# Altium integrated library Analog Devices Data Converters Digital-to-Analog Converters.IntLib: 2231 symbols (part 4 of 181)
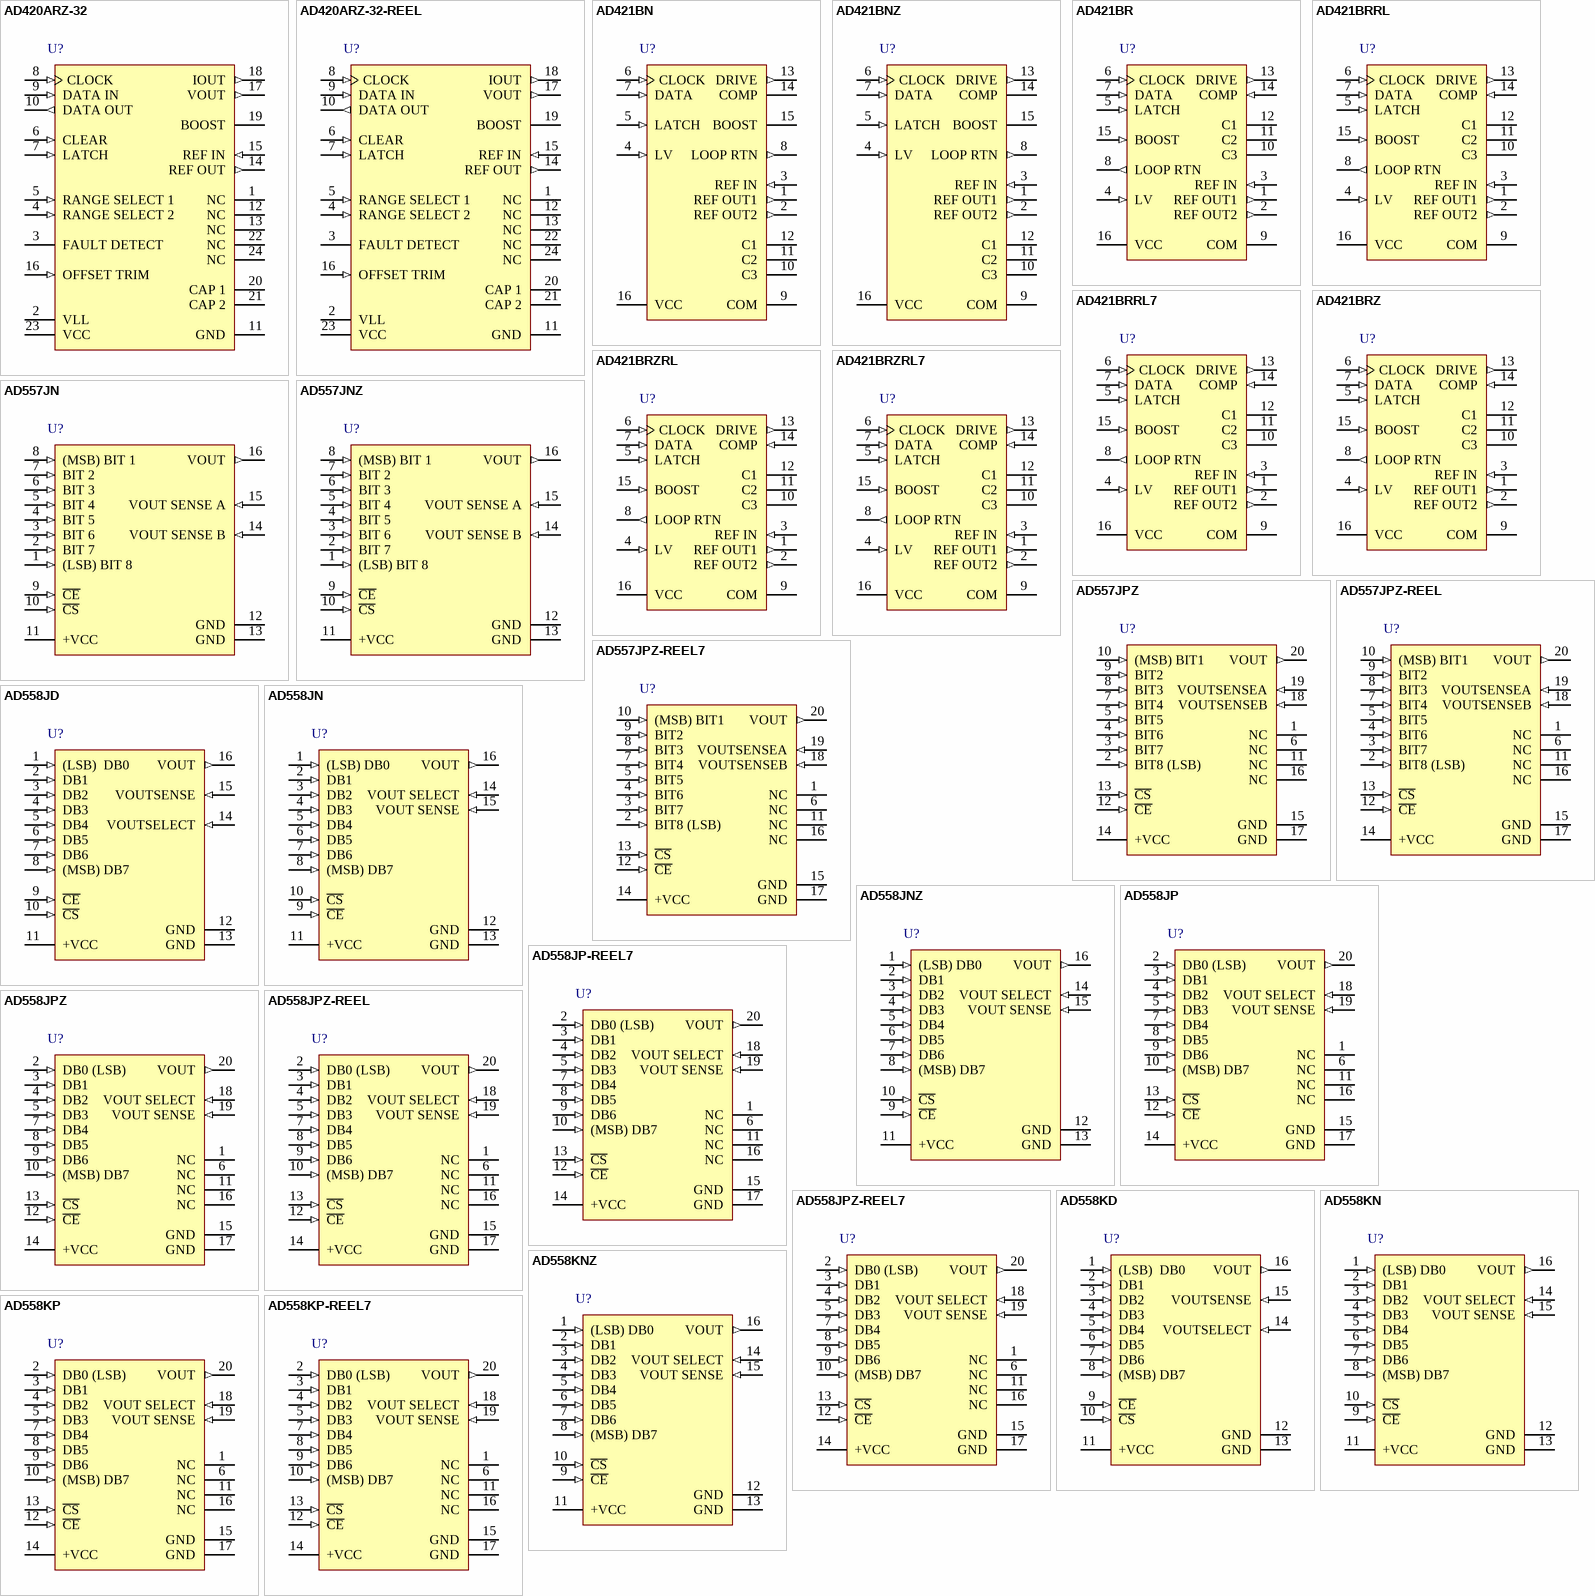
[diagram p117: symbols AD420ARZ-32 to AD558KP-REEL7]

## AD421BRZRL
designator U?
Single 16-Bit Loop-Powered Digital-to-Analog Converter, 4 to 20 mA, -40 to +85 degC, RW-16, Pb-Free, Reel; Generic Part Number: AD421; Manufacturer: Analog Devices; PartNumber: AD421BRZRL; # DAC Outputs: 1; Max V+: 5.05V; Op Pwr Diss: 1.95mW; Resolution (Bits): 16; Settling Time: 8ms; Single Supply: Yes; DatasheetVersion: Rev.C; PackageVersion: 032707-B; PackageReference: RW-16; PackageDescription: 16-Lead Standard Small Outline Package [SOIC_W]; Supplier 1: Digi-Key; Supplier Part Number 1: AD421BRZRLTR-ND; Supplier 2: Digi-Key; Supplier Part Number 2: AD421BRZRLCT-ND; Supplier 3: Digi-Key; Supplier Part Number 3: AD421BRZRLDKR-ND; Supplier 4: Newark; Supplier Part Number 4: 59K3528; Supplier 5: Mouser; Supplier Part Number 5: 584-AD421BRZR; Packing: Reel; RoHS: Y; Mounting Technology: Surface Mount; Code_JEDEC: MS-013-AA; Code_IPC: SOIC127P1030-16; ComponentLink1Description: Manufacturer URL; ComponentLink1URL: http://www.analog.com/en/index.html; ComponentLink2Description: Datasheet; ComponentLink2URL: http://www.analog.com/static/imported-files/data_sheets/AD421.pdf; ComponentLink3Description: Package Specification; ComponentLink3URL: http://www.analog.com/static/imported-files/packages/PKG_PDF/SOIC_WIDE%20%28RW%29/RW_16.pdf; ComponentLink4Description: Product URL; ComponentLink4URL: http://www.analog.com/en/digital-to-analog-converters/da-converters/ad421/products/product.html
footprint RW-16_N (SOIC, 16-Leads, Body 10.3x7.5mm, Pitch 1.27mm, IPC Medium Density)
footprint RW-16_L (SOIC, 16-Leads, Body 10.3x7.5mm, Pitch 1.27mm, IPC High Density)
footprint RW-16_M (SOIC, 16-Leads, Body 10.3x7.5mm, Pitch 1.27mm, IPC Low Density)
pins: 1 REF OUT1 (out) "Reference Output 1. A precision +1.25 V reference is provided at this pin. It is intended as a precision reference source for other devices in the transmitter. REF OUT1 is a buffered output capable of providing up to 0.5 mA (See Datasheet)", 2 REF OUT2 (out) "Reference Output 2. A precision +2.5 V reference is provided at this pin. To operate the AD421 with its own reference, REF OUT2 should be connected to REF IN. It can also be used as a precision reference source for other (See Datasheet)", 3 REF IN (in) "Voltage Reference Input. The reference voltage for the AD421 is applied to this pin and it sets the span for the AD421. The nominal reference voltage for the AD421 is +2.5 V for correct operation. This can be supplied using (See Datasheet)", 4 LV (in) "Regulated Voltage Control Input. The LV input controls the loop gain of the servo amplifier to set VCC. With LV connected to COM, the regulator voltage is set to 5 V nominal. If the LV input is connected through 0.01 uF to (See Datasheet)", 5 LATCH (in) "DAC Latch Input. Logic Input. A rising edge of the LATCH signal loads the data from the serial input shift register to the DAC latch and hence updates the output of the DAC. The number of clock cycles provided between latch (See Datasheet)", 6 CLOCK (in) "Data Clock Input. Data on the DATA input is clocked into the shift register on the rising edge of this CLOCK input. The period of this clock equals the input serial data bit rate. This serial clock rate can be up to 10 MHz. (See Datasheet)", 7 DATA (in) "Data Input. The data to be loaded to the AD421 input shift register is applied to this input. Data should be valid on the rising edge of the CLOCK input.", 8 LOOP RTN (out) "Loop Return Output. LOOP RTN is the return path for current flowing in the current loop.", 9 COM (power) "Common. This is the reference potential for the AD421 analog and digital inputs and outputs and for the voltage regulator output.", 10 C3 "Filtering Capacitor. A low dielectric absorption capacitor ceramic capacitor should be connected between this pin and COM for internal filtering of the switched current sources", 11 C2 "Filtering Capacitor. See C3 description.", 12 C1 "Filtering Capacitor. See C3 description.", 13 DRIVE (out) "Output from the Voltage Regulator Loop. The DRIVE signal controls the external pass transistor to establish and maintain the correct VCC level programmed by the LV inputs while providing the necessary bias as the loop (See Datasheet)", 14 COMP (in) "Compensation Capacitor Input. A capacitor connected between COMP and DRIVE is required to stabilize the feedback loop formed with the regulator op amp and the external pass transistor.", 15 BOOST (in) "This open collector pin sinks the necessary current from the loop so that the current flowing into BOOST plus the current flowing into COM is equal to the programmed loop current", 16 VCC (power) "Power Supply. VCC is the power supply input of the AD421 and it also provides the voltage regulator output, driven by the external pass transistor. It is used both to bias the AD421 itself and to provide power for the rest (See Datasheet)"

## AD421BRZRL7
designator U?
Single 16-Bit Loop-Powered Digital-to-Analog Converter, 4 to 20 mA, -40 to +85 degC, RW-16, Pb-Free, Reel; Generic Part Number: AD421; Manufacturer: Analog Devices; PartNumber: AD421BRZRL7; # DAC Outputs: 1; Max V+: 5.05V; Op Pwr Diss: 1.95mW; Resolution (Bits): 16; Settling Time: 8ms; Single Supply: Yes; DatasheetVersion: Rev.C; PackageVersion: 032707-B; PackageReference: RW-16; PackageDescription: 16-Lead Standard Small Outline Package [SOIC_W]; Supplier 1: Digi-Key; Supplier Part Number 1: AD421BRZRL7TR-ND; Supplier 2: Digi-Key; Supplier Part Number 2: AD421BRZRL7CT-ND; Supplier 3: Digi-Key; Supplier Part Number 3: AD421BRZRL7DKR-ND; Supplier 4: Newark; Supplier Part Number 4: 59K3529; Supplier 5: Mouser; Supplier Part Number 5: 584-AD421BRZR7; Packing: Reel; RoHS: Y; Mounting Technology: Surface Mount; Code_JEDEC: MS-013-AA; Code_IPC: SOIC127P1030-16; ComponentLink1Description: Manufacturer URL; ComponentLink1URL: http://www.analog.com/en/index.html; ComponentLink2Description: Datasheet; ComponentLink2URL: http://www.analog.com/static/imported-files/data_sheets/AD421.pdf; ComponentLink3Description: Package Specification; ComponentLink3URL: http://www.analog.com/static/imported-files/packages/PKG_PDF/SOIC_WIDE%20%28RW%29/RW_16.pdf; ComponentLink4Description: Product URL; ComponentLink4URL: http://www.analog.com/en/digital-to-analog-converters/da-converters/ad421/products/product.html
footprint RW-16_N (SOIC, 16-Leads, Body 10.3x7.5mm, Pitch 1.27mm, IPC Medium Density)
footprint RW-16_L (SOIC, 16-Leads, Body 10.3x7.5mm, Pitch 1.27mm, IPC High Density)
footprint RW-16_M (SOIC, 16-Leads, Body 10.3x7.5mm, Pitch 1.27mm, IPC Low Density)
pins: 1 REF OUT1 (out) "Reference Output 1. A precision +1.25 V reference is provided at this pin. It is intended as a precision reference source for other devices in the transmitter. REF OUT1 is a buffered output capable of providing up to 0.5 mA (See Datasheet)", 2 REF OUT2 (out) "Reference Output 2. A precision +2.5 V reference is provided at this pin. To operate the AD421 with its own reference, REF OUT2 should be connected to REF IN. It can also be used as a precision reference source for other (See Datasheet)", 3 REF IN (in) "Voltage Reference Input. The reference voltage for the AD421 is applied to this pin and it sets the span for the AD421. The nominal reference voltage for the AD421 is +2.5 V for correct operation. This can be supplied using (See Datasheet)", 4 LV (in) "Regulated Voltage Control Input. The LV input controls the loop gain of the servo amplifier to set VCC. With LV connected to COM, the regulator voltage is set to 5 V nominal. If the LV input is connected through 0.01 uF to (See Datasheet)", 5 LATCH (in) "DAC Latch Input. Logic Input. A rising edge of the LATCH signal loads the data from the serial input shift register to the DAC latch and hence updates the output of the DAC. The number of clock cycles provided between latch (See Datasheet)", 6 CLOCK (in) "Data Clock Input. Data on the DATA input is clocked into the shift register on the rising edge of this CLOCK input. The period of this clock equals the input serial data bit rate. This serial clock rate can be up to 10 MHz. (See Datasheet)", 7 DATA (in) "Data Input. The data to be loaded to the AD421 input shift register is applied to this input. Data should be valid on the rising edge of the CLOCK input.", 8 LOOP RTN (out) "Loop Return Output. LOOP RTN is the return path for current flowing in the current loop.", 9 COM (power) "Common. This is the reference potential for the AD421 analog and digital inputs and outputs and for the voltage regulator output.", 10 C3 "Filtering Capacitor. A low dielectric absorption capacitor ceramic capacitor should be connected between this pin and COM for internal filtering of the switched current sources", 11 C2 "Filtering Capacitor. See C3 description.", 12 C1 "Filtering Capacitor. See C3 description.", 13 DRIVE (out) "Output from the Voltage Regulator Loop. The DRIVE signal controls the external pass transistor to establish and maintain the correct VCC level programmed by the LV inputs while providing the necessary bias as the loop (See Datasheet)", 14 COMP (in) "Compensation Capacitor Input. A capacitor connected between COMP and DRIVE is required to stabilize the feedback loop formed with the regulator op amp and the external pass transistor.", 15 BOOST (in) "This open collector pin sinks the necessary current from the loop so that the current flowing into BOOST plus the current flowing into COM is equal to the programmed loop current", 16 VCC (power) "Power Supply. VCC is the power supply input of the AD421 and it also provides the voltage regulator output, driven by the external pass transistor. It is used both to bias the AD421 itself and to provide power for the rest (See Datasheet)"

## AD557JN
designator U?
Single 8-Bit Low Cost Complete uP-Compatible DACPORT, 0 to +70 degC, N-16, Tube; Generic Part Number: AD557; Manufacturer: Analog Devices; PartNumber: AD557JN; # DAC Outputs: 1; Max V+: 5.5V; Op Pwr Diss: 125mW; Resolution (Bits): 8; Settling Time: 800ns; Single Supply: Yes; DatasheetVersion: Rev.B; PackageVersion: 070706-A; PackageReference: N-16; PackageDescription: 16-Lead Plastic Dual In-Line Package [PDIP] Narrow Body; Supplier 1: Digi-Key; Supplier Part Number 1: AD557JN-ND; Supplier 2: Mouser; Supplier Part Number 2: 584-AD557JN; Packing: Tube; RoHS: N; Mounting Technology: Through Hole; Code_JEDEC: MS-001; ComponentLink1Description: Manufacturer URL; ComponentLink1URL: http://www.analog.com/en/index.html; ComponentLink2Description: Datasheet; ComponentLink2URL: http://www.analog.com/static/imported-files/data_sheets/AD557.pdf; ComponentLink3Description: Package Specification; ComponentLink3URL: http://www.analog.com/static/imported-files/packages/44768431550332N_16.pdf; ComponentLink4Description: Product URL; ComponentLink4URL: http://www.analog.com/en/digital-to-analog-converters/da-converters/ad557/products/product.html
footprint N-16 (DIP, 16-Leads, Row Spacing 7.62mm, Pitch 2.54mm, Body 20.1x6.6mm)
pins: 1 (LSB) BIT 8 (in), 2 BIT 7 (in), 3 BIT 6 (in), 4 BIT 5 (in), 5 BIT 4 (in), 6 BIT 3 (in), 7 BIT 2 (in), 8 (MSB) BIT 1 (in), 9 ~{CE} (in), 10 ~{CS} (in), 11 +VCC (power), 12 GND (power), 13 GND (power), 14 VOUT SENSE B (in), 15 VOUT SENSE A (in), 16 VOUT (out)

## AD557JNZ
designator U?
Single 8-Bit Low Cost Complete uP-Compatible DACPORT, 0 to +70 degC, N-16, Pb-Free, Tube; Generic Part Number: AD557; Manufacturer: Analog Devices; PartNumber: AD557JNZ; # DAC Outputs: 1; Max V+: 5.5V; Op Pwr Diss: 125mW; Resolution (Bits): 8; Settling Time: 800ns; Single Supply: Yes; DatasheetVersion: Rev.B; PackageVersion: 070706-A; PackageReference: N-16; PackageDescription: 16-Lead Plastic Dual In-Line Package [PDIP] Narrow Body; Supplier 1: Digi-Key; Supplier Part Number 1: AD557JNZ-ND; Supplier 2: Farnell; Supplier Part Number 2: 9604472; Supplier 3: Farnell; Supplier Part Number 3: 1523885; Supplier 4: Newark; Supplier Part Number 4: 59K4231; Supplier 5: Mouser; Supplier Part Number 5: 584-AD557JNZ; Packing: Tube; RoHS: Y; Mounting Technology: Through Hole; Code_JEDEC: MS-001; ComponentLink1Description: Manufacturer URL; ComponentLink1URL: http://www.analog.com/en/index.html; ComponentLink2Description: Datasheet; ComponentLink2URL: http://www.analog.com/static/imported-files/data_sheets/AD557.pdf; ComponentLink3Description: Package Specification; ComponentLink3URL: http://www.analog.com/static/imported-files/packages/44768431550332N_16.pdf; ComponentLink4Description: Product URL; ComponentLink4URL: http://www.analog.com/en/digital-to-analog-converters/da-converters/ad557/products/product.html
footprint N-16 (DIP, 16-Leads, Row Spacing 7.62mm, Pitch 2.54mm, Body 20.1x6.6mm)
pins: 1 (LSB) BIT 8 (in), 2 BIT 7 (in), 3 BIT 6 (in), 4 BIT 5 (in), 5 BIT 4 (in), 6 BIT 3 (in), 7 BIT 2 (in), 8 (MSB) BIT 1 (in), 9 ~{CE} (in), 10 ~{CS} (in), 11 +VCC (power), 12 GND (power), 13 GND (power), 14 VOUT SENSE B (in), 15 VOUT SENSE A (in), 16 VOUT (out)

## AD557JPZ
designator U?
Single 8-Bit Low Cost Complete uP-Compatible DACPORT, 0 to +70 degC, P-20A, Pb-Free, Tube; Generic Part Number: AD557; Manufacturer: Analog Devices; PartNumber: AD557JPZ; # DAC Outputs: 1; Max V+: 5.5V; Op Pwr Diss: 125mW; Resolution (Bits): 8; Settling Time: 800ns; Single Supply: Yes; DatasheetVersion: Rev.B; PackageVersion: Nov-2002; PackageReference: P-20A; PackageDescription: 20-Lead Plastic Leaded Chip Carrier [PLCC]; Supplier 1: Digi-Key; Supplier Part Number 1: AD557JPZ-ND; Supplier 2: Farnell; Supplier Part Number 2: 2305676; Supplier 3: Newark; Supplier Part Number 3: 12M8562; Supplier 4: Mouser; Supplier Part Number 4: 584-AD557JPZ; Packing: Tube; RoHS: Y; Mounting Technology: Surface Mount; Code_JEDEC: MO-047-AA; ComponentLink1Description: Manufacturer URL; ComponentLink1URL: http://www.analog.com/en/index.html; ComponentLink2Description: Datasheet; ComponentLink2URL: http://www.analog.com/static/imported-files/data_sheets/AD557.pdf; ComponentLink3Description: Package Specification; ComponentLink3URL: http://www.analog.com/static/imported-files/packages/3121431516544404277643669223804694P20A.pdf; ComponentLink4Description: Product URL; ComponentLink4URL: http://www.analog.com/en/digital-to-analog-converters/da-converters/ad557/products/product.html
footprint P-20A_N (Leaded Chip Carrier, 20-Leads, Body 9x9mm, Pitch 1.27mm, IPC Medium Density)
footprint P-20A_L (Leaded Chip Carrier, 20-Leads, Body 9x9mm, Pitch 1.27mm, IPC High Density)
footprint P-20A_M (Leaded Chip Carrier, 20-Leads, Body 9x9mm, Pitch 1.27mm, IPC Low Density)
pins: 1 NC, 2 BIT8 (LSB) (in), 3 BIT7 (in), 4 BIT6 (in), 5 BIT5 (in), 6 NC, 7 BIT4 (in), 8 BIT3 (in), 9 BIT2 (in), 10 (MSB) BIT1 (in), 11 NC, 12 ~{CE} (in), 13 ~{CS} (in), 14 +VCC (power), 15 GND (power), 16 NC, 17 GND (power), 18 VOUTSENSEB (in), 19 VOUTSENSEA (in), 20 VOUT (out)

## AD557JPZ-REEL
designator U?
Single 8-Bit Low Cost Complete uP-Compatible DACPORT, 0 to +70 degC, P-20A, Pb-Free, Reel; Generic Part Number: AD557; Manufacturer: Analog Devices; PartNumber: AD557JPZ-REEL; # DAC Outputs: 1; Max V+: 5.5V; Op Pwr Diss: 125mW; Resolution (Bits): 8; Settling Time: 800ns; Single Supply: Yes; DatasheetVersion: Rev.B; PackageVersion: Nov-2002; PackageReference: P-20A; PackageDescription: 20-Lead Plastic Leaded Chip Carrier [PLCC]; Supplier 1: Digi-Key; Supplier Part Number 1: AD557JPZ-REEL-ND; Supplier 2: Newark; Supplier Part Number 2: 12M8563; Supplier 3: Mouser; Supplier Part Number 3: 584-AD557JPZ-R; Packing: Reel; RoHS: Y; Mounting Technology: Surface Mount; Code_JEDEC: MO-047-AA; ComponentLink1Description: Manufacturer URL; ComponentLink1URL: http://www.analog.com/en/index.html; ComponentLink2Description: Datasheet; ComponentLink2URL: http://www.analog.com/static/imported-files/data_sheets/AD557.pdf; ComponentLink3Description: Package Specification; ComponentLink3URL: http://www.analog.com/static/imported-files/packages/3121431516544404277643669223804694P20A.pdf; ComponentLink4Description: Product URL; ComponentLink4URL: http://www.analog.com/en/digital-to-analog-converters/da-converters/ad557/products/product.html
footprint P-20A_N (Leaded Chip Carrier, 20-Leads, Body 9x9mm, Pitch 1.27mm, IPC Medium Density)
footprint P-20A_L (Leaded Chip Carrier, 20-Leads, Body 9x9mm, Pitch 1.27mm, IPC High Density)
footprint P-20A_M (Leaded Chip Carrier, 20-Leads, Body 9x9mm, Pitch 1.27mm, IPC Low Density)
pins: 1 NC, 2 BIT8 (LSB) (in), 3 BIT7 (in), 4 BIT6 (in), 5 BIT5 (in), 6 NC, 7 BIT4 (in), 8 BIT3 (in), 9 BIT2 (in), 10 (MSB) BIT1 (in), 11 NC, 12 ~{CE} (in), 13 ~{CS} (in), 14 +VCC (power), 15 GND (power), 16 NC, 17 GND (power), 18 VOUTSENSEB (in), 19 VOUTSENSEA (in), 20 VOUT (out)

## AD557JPZ-REEL7
designator U?
Single 8-Bit Low Cost Complete uP-Compatible DACPORT, 0 to +70 degC, P-20A, Pb-Free, Reel; Generic Part Number: AD557; Manufacturer: Analog Devices; PartNumber: AD557JPZ-REEL7; # DAC Outputs: 1; Max V+: 5.5V; Op Pwr Diss: 125mW; Resolution (Bits): 8; Settling Time: 800ns; Single Supply: Yes; DatasheetVersion: Rev.B; PackageVersion: Nov-2002; PackageReference: P-20A; PackageDescription: 20-Lead Plastic Leaded Chip Carrier [PLCC]; Supplier 1: Digi-Key; Supplier Part Number 1: AD557JPZ-REEL7-ND; Supplier 2: Newark; Supplier Part Number 2: 12M8564; Supplier 3: Mouser; Supplier Part Number 3: 584-AD557JPZ-R7; Packing: Reel; RoHS: Y; Mounting Technology: Surface Mount; Code_JEDEC: MO-047-AA; ComponentLink1Description: Manufacturer URL; ComponentLink1URL: http://www.analog.com/en/index.html; ComponentLink2Description: Datasheet; ComponentLink2URL: http://www.analog.com/static/imported-files/data_sheets/AD557.pdf; ComponentLink3Description: Package Specification; ComponentLink3URL: http://www.analog.com/static/imported-files/packages/3121431516544404277643669223804694P20A.pdf; ComponentLink4Description: Product URL; ComponentLink4URL: http://www.analog.com/en/digital-to-analog-converters/da-converters/ad557/products/product.html
footprint P-20A_N (Leaded Chip Carrier, 20-Leads, Body 9x9mm, Pitch 1.27mm, IPC Medium Density)
footprint P-20A_L (Leaded Chip Carrier, 20-Leads, Body 9x9mm, Pitch 1.27mm, IPC High Density)
footprint P-20A_M (Leaded Chip Carrier, 20-Leads, Body 9x9mm, Pitch 1.27mm, IPC Low Density)
pins: 1 NC, 2 BIT8 (LSB) (in), 3 BIT7 (in), 4 BIT6 (in), 5 BIT5 (in), 6 NC, 7 BIT4 (in), 8 BIT3 (in), 9 BIT2 (in), 10 (MSB) BIT1 (in), 11 NC, 12 ~{CE} (in), 13 ~{CS} (in), 14 +VCC (power), 15 GND (power), 16 NC, 17 GND (power), 18 VOUTSENSEB (in), 19 VOUTSENSEA (in), 20 VOUT (out)

## AD558JD
designator U?
Single 8-Bit Low Cost Complete uP-Compatible DACPORT, 0 to +70 degC, D-16, Tube; Generic Part Number: AD558; Manufacturer: Analog Devices; PartNumber: AD558JD; # DAC Outputs: 1; Max V+: 16.5V; Op Pwr Diss: 375mW; Resolution (Bits): 8; Settling Time: 800ns; Single Supply: Yes; DatasheetVersion: Rev.A; PackageVersion: Oct-2004; PackageReference: D-16; PackageDescription: 16-Lead Side-Brazed Ceramic Dual In-Line Package [SBDIP]; Supplier 1: Digi-Key; Supplier Part Number 1: AD558JD-ND; Supplier 2: Newark; Supplier Part Number 2: 05F6976; Supplier 3: Mouser; Supplier Part Number 3: 584-AD558JD; Packing: Tube; RoHS: N; Mounting Technology: Through Hole; ComponentLink1Description: Manufacturer URL; ComponentLink1URL: http://www.analog.com/en/index.html; ComponentLink2Description: Datasheet; ComponentLink2URL: http://www.analog.com/static/imported-files/data_sheets/AD558.pdf; ComponentLink3Description: Package Specification; ComponentLink3URL: http://www.analog.com/static/imported-files/packages/411773807540737148809448D_16.pdf; ComponentLink4Description: Product URL; ComponentLink4URL: http://www.analog.com/en/digital-to-analog-converters/da-converters/ad558/products/product.html
footprint D-16 (DIP, 16-Leads, Row Spacing 7.62mm, Pitch 2.54mm, Body 21.3x6.7mm)
pins: 1 (LSB)  DB0 (in), 2 DB1 (in), 3 DB2 (in), 4 DB3 (in), 5 DB4 (in), 6 DB5 (in), 7 DB6 (in), 8 (MSB) DB7 (in), 9 ~{CE} (in), 10 ~{CS} (in), 11 +VCC (power), 12 GND (power), 13 GND (power), 14 VOUTSELECT (in), 15 VOUTSENSE (in), 16 VOUT (out)

## AD558JN
designator U?
Single 8-Bit Low Cost Complete uP-Compatible DACPORT, 0 to +70 degC, N-16, Tube; Generic Part Number: AD558; Manufacturer: Analog Devices; PartNumber: AD558JN; # DAC Outputs: 1; Max V+: 16.5V; Op Pwr Diss: 375mW; Resolution (Bits): 8; Settling Time: 800ns; Single Supply: Yes; DatasheetVersion: Rev.A; PackageVersion: 070706-A; PackageReference: N-16; PackageDescription: 16-Lead Plastic Dual In-Line Package [PDIP] Narrow Body; Supplier 1: Digi-Key; Supplier Part Number 1: AD558JN-ND; Supplier 2: Mouser; Supplier Part Number 2: 584-AD558JN; Packing: Tube; RoHS: N; Mounting Technology: Through Hole; Code_JEDEC: MS-001; ComponentLink1Description: Manufacturer URL; ComponentLink1URL: http://www.analog.com/en/index.html; ComponentLink2Description: Datasheet; ComponentLink2URL: http://www.analog.com/static/imported-files/data_sheets/AD558.pdf; ComponentLink3Description: Package Specification; ComponentLink3URL: http://www.analog.com/static/imported-files/packages/44768431550332N_16.pdf; ComponentLink4Description: Product URL; ComponentLink4URL: http://www.analog.com/en/digital-to-analog-converters/da-converters/ad558/products/product.html
footprint N-16 (DIP, 16-Leads, Row Spacing 7.62mm, Pitch 2.54mm, Body 20.1x6.6mm)
pins: 1 (LSB) DB0 (in), 2 DB1 (in), 3 DB2 (in), 4 DB3 (in), 5 DB4 (in), 6 DB5 (in), 7 DB6 (in), 8 (MSB) DB7 (in), 9 ~{CE} (in), 10 ~{CS} (in), 11 +VCC (power), 12 GND (power), 13 GND (power), 14 VOUT SELECT (in), 15 VOUT SENSE (in), 16 VOUT (out)

## AD558JNZ
designator U?
Single 8-Bit Low Cost Complete uP-Compatible DACPORT, 0 to +70 degC, N-16, Pb-Free, Tube; Generic Part Number: AD558; Manufacturer: Analog Devices; PartNumber: AD558JNZ; # DAC Outputs: 1; Max V+: 16.5V; Op Pwr Diss: 375mW; Resolution (Bits): 8; Settling Time: 800ns; Single Supply: Yes; DatasheetVersion: Rev.A; PackageVersion: 070706-A; PackageReference: N-16; PackageDescription: 16-Lead Plastic Dual In-Line Package [PDIP] Narrow Body; Supplier 1: Digi-Key; Supplier Part Number 1: AD558JNZ-ND; Supplier 2: Farnell; Supplier Part Number 2: 1079362; Supplier 3: Farnell; Supplier Part Number 3: 1523778; Supplier 4: Newark; Supplier Part Number 4: 59K4249; Supplier 5: Mouser; Supplier Part Number 5: 584-AD558JNZ; Packing: Tube; RoHS: Y; Mounting Technology: Through Hole; Code_JEDEC: MS-001; ComponentLink1Description: Manufacturer URL; ComponentLink1URL: http://www.analog.com/en/index.html; ComponentLink2Description: Datasheet; ComponentLink2URL: http://www.analog.com/static/imported-files/data_sheets/AD558.pdf; ComponentLink3Description: Package Specification; ComponentLink3URL: http://www.analog.com/static/imported-files/packages/44768431550332N_16.pdf; ComponentLink4Description: Product URL; ComponentLink4URL: http://www.analog.com/en/digital-to-analog-converters/da-converters/ad558/products/product.html
footprint N-16 (DIP, 16-Leads, Row Spacing 7.62mm, Pitch 2.54mm, Body 20.1x6.6mm)
pins: 1 (LSB) DB0 (in), 2 DB1 (in), 3 DB2 (in), 4 DB3 (in), 5 DB4 (in), 6 DB5 (in), 7 DB6 (in), 8 (MSB) DB7 (in), 9 ~{CE} (in), 10 ~{CS} (in), 11 +VCC (power), 12 GND (power), 13 GND (power), 14 VOUT SELECT (in), 15 VOUT SENSE (in), 16 VOUT (out)

## AD558JP
designator U?
Single 8-Bit Low Cost Complete uP-Compatible DACPORT, 0 to +70 degC, P-20A, Tube; Generic Part Number: AD558; Manufacturer: Analog Devices; PartNumber: AD558JP; # DAC Outputs: 1; Max V+: 16.5V; Op Pwr Diss: 375mW; Resolution (Bits): 8; Settling Time: 800ns; Single Supply: Yes; DatasheetVersion: Rev.A; PackageVersion: Nov-2002; PackageReference: P-20A; PackageDescription: 20-Lead Plastic Leaded Chip Carrier [PLCC]; Supplier 1: Digi-Key; Supplier Part Number 1: AD558JP-ND; Supplier 2: Newark; Supplier Part Number 2: 05F6978; Supplier 3: Mouser; Supplier Part Number 3: 584-AD558JP; Packing: Tube; RoHS: N; Mounting Technology: Surface Mount; Code_JEDEC: MO-047-AA; ComponentLink1Description: Manufacturer URL; ComponentLink1URL: http://www.analog.com/en/index.html; ComponentLink2Description: Datasheet; ComponentLink2URL: http://www.analog.com/static/imported-files/data_sheets/AD558.pdf; ComponentLink3Description: Package Specification; ComponentLink3URL: http://www.analog.com/static/imported-files/packages/3121431516544404277643669223804694P20A.pdf; ComponentLink4Description: Product URL; ComponentLink4URL: http://www.analog.com/en/digital-to-analog-converters/da-converters/ad558/products/product.html
footprint P-20A_N (Leaded Chip Carrier, 20-Leads, Body 9x9mm, Pitch 1.27mm, IPC Medium Density)
footprint P-20A_L (Leaded Chip Carrier, 20-Leads, Body 9x9mm, Pitch 1.27mm, IPC High Density)
footprint P-20A_M (Leaded Chip Carrier, 20-Leads, Body 9x9mm, Pitch 1.27mm, IPC Low Density)
pins: 1 NC, 2 DB0 (LSB) (in), 3 DB1 (in), 4 DB2 (in), 5 DB3 (in), 6 NC, 7 DB4 (in), 8 DB5 (in), 9 DB6 (in), 10 (MSB) DB7 (in), 11 NC, 12 ~{CE} (in), 13 ~{CS} (in), 14 +VCC (power), 15 GND (power), 16 NC, 17 GND (power), 18 VOUT SELECT (in), 19 VOUT SENSE (in), 20 VOUT (out)

## AD558JP-REEL7
designator U?
Single 8-Bit Low Cost Complete uP-Compatible DACPORT, 0 to +70 degC, P-20A, Reel; Generic Part Number: AD558; Manufacturer: Analog Devices; PartNumber: AD558JP-REEL7; # DAC Outputs: 1; Max V+: 16.5V; Op Pwr Diss: 375mW; Resolution (Bits): 8; Settling Time: 800ns; Single Supply: Yes; DatasheetVersion: Rev.A; PackageVersion: Nov-2002; PackageReference: P-20A; PackageDescription: 20-Lead Plastic Leaded Chip Carrier [PLCC]; Supplier 1: Digi-Key; Supplier Part Number 1: AD558JP-REEL7-ND; Supplier 2: Newark; Supplier Part Number 2: 09B5242; Supplier 3: Mouser; Supplier Part Number 3: 584-AD558JP-R7; Packing: Reel; RoHS: N; Mounting Technology: Surface Mount; Code_JEDEC: MO-047-AA; ComponentLink1Description: Manufacturer URL; ComponentLink1URL: http://www.analog.com/en/index.html; ComponentLink2Description: Datasheet; ComponentLink2URL: http://www.analog.com/static/imported-files/data_sheets/AD558.pdf; ComponentLink3Description: Package Specification; ComponentLink3URL: http://www.analog.com/static/imported-files/packages/3121431516544404277643669223804694P20A.pdf; ComponentLink4Description: Product URL; ComponentLink4URL: http://www.analog.com/en/digital-to-analog-converters/da-converters/ad558/products/product.html
footprint P-20A_N (Leaded Chip Carrier, 20-Leads, Body 9x9mm, Pitch 1.27mm, IPC Medium Density)
footprint P-20A_L (Leaded Chip Carrier, 20-Leads, Body 9x9mm, Pitch 1.27mm, IPC High Density)
footprint P-20A_M (Leaded Chip Carrier, 20-Leads, Body 9x9mm, Pitch 1.27mm, IPC Low Density)
pins: 1 NC, 2 DB0 (LSB) (in), 3 DB1 (in), 4 DB2 (in), 5 DB3 (in), 6 NC, 7 DB4 (in), 8 DB5 (in), 9 DB6 (in), 10 (MSB) DB7 (in), 11 NC, 12 ~{CE} (in), 13 ~{CS} (in), 14 +VCC (power), 15 GND (power), 16 NC, 17 GND (power), 18 VOUT SELECT (in), 19 VOUT SENSE (in), 20 VOUT (out)

## AD558JPZ
designator U?
Single 8-Bit Low Cost Complete uP-Compatible DACPORT, 0 to +70 degC, P-20A, Pb-Free, Tube; Generic Part Number: AD558; Manufacturer: Analog Devices; PartNumber: AD558JPZ; # DAC Outputs: 1; Max V+: 16.5V; Op Pwr Diss: 375mW; Resolution (Bits): 8; Settling Time: 800ns; Single Supply: Yes; DatasheetVersion: Rev.A; PackageVersion: Nov-2002; PackageReference: P-20A; PackageDescription: 20-Lead Plastic Leaded Chip Carrier [PLCC]; Supplier 1: Digi-Key; Supplier Part Number 1: AD558JPZ-ND; Supplier 2: Newark; Supplier Part Number 2: 07P8933; Supplier 3: Mouser; Supplier Part Number 3: 584-AD558JPZ; Packing: Tube; RoHS: Y; Mounting Technology: Surface Mount; Code_JEDEC: MO-047-AA; ComponentLink1Description: Manufacturer URL; ComponentLink1URL: http://www.analog.com/en/index.html; ComponentLink2Description: Datasheet; ComponentLink2URL: http://www.analog.com/static/imported-files/data_sheets/AD558.pdf; ComponentLink3Description: Package Specification; ComponentLink3URL: http://www.analog.com/static/imported-files/packages/3121431516544404277643669223804694P20A.pdf; ComponentLink4Description: Product URL; ComponentLink4URL: http://www.analog.com/en/digital-to-analog-converters/da-converters/ad558/products/product.html
footprint P-20A_N (Leaded Chip Carrier, 20-Leads, Body 9x9mm, Pitch 1.27mm, IPC Medium Density)
footprint P-20A_L (Leaded Chip Carrier, 20-Leads, Body 9x9mm, Pitch 1.27mm, IPC High Density)
footprint P-20A_M (Leaded Chip Carrier, 20-Leads, Body 9x9mm, Pitch 1.27mm, IPC Low Density)
pins: 1 NC, 2 DB0 (LSB) (in), 3 DB1 (in), 4 DB2 (in), 5 DB3 (in), 6 NC, 7 DB4 (in), 8 DB5 (in), 9 DB6 (in), 10 (MSB) DB7 (in), 11 NC, 12 ~{CE} (in), 13 ~{CS} (in), 14 +VCC (power), 15 GND (power), 16 NC, 17 GND (power), 18 VOUT SELECT (in), 19 VOUT SENSE (in), 20 VOUT (out)

## AD558JPZ-REEL
designator U?
Single 8-Bit Low Cost Complete uP-Compatible DACPORT, 0 to +70 degC, P-20A, Pb-Free, Reel; Generic Part Number: AD558; Manufacturer: Analog Devices; PartNumber: AD558JPZ-REEL; # DAC Outputs: 1; Max V+: 16.5V; Op Pwr Diss: 375mW; Resolution (Bits): 8; Settling Time: 800ns; Single Supply: Yes; DatasheetVersion: Rev.A; PackageVersion: Nov-2002; PackageReference: P-20A; PackageDescription: 20-Lead Plastic Leaded Chip Carrier [PLCC]; Supplier 1: Mouser; Supplier Part Number 1: N/A; Packing: Reel; RoHS: Y; Mounting Technology: Surface Mount; Code_JEDEC: MO-047-AA; ComponentLink1Description: Manufacturer URL; ComponentLink1URL: http://www.analog.com/en/index.html; ComponentLink2Description: Datasheet; ComponentLink2URL: http://www.analog.com/static/imported-files/data_sheets/AD558.pdf; ComponentLink3Description: Package Specification; ComponentLink3URL: http://www.analog.com/static/imported-files/packages/3121431516544404277643669223804694P20A.pdf; ComponentLink4Description: Product URL; ComponentLink4URL: http://www.analog.com/en/digital-to-analog-converters/da-converters/ad558/products/product.html
footprint P-20A_N (Leaded Chip Carrier, 20-Leads, Body 9x9mm, Pitch 1.27mm, IPC Medium Density)
footprint P-20A_L (Leaded Chip Carrier, 20-Leads, Body 9x9mm, Pitch 1.27mm, IPC High Density)
footprint P-20A_M (Leaded Chip Carrier, 20-Leads, Body 9x9mm, Pitch 1.27mm, IPC Low Density)
pins: 1 NC, 2 DB0 (LSB) (in), 3 DB1 (in), 4 DB2 (in), 5 DB3 (in), 6 NC, 7 DB4 (in), 8 DB5 (in), 9 DB6 (in), 10 (MSB) DB7 (in), 11 NC, 12 ~{CE} (in), 13 ~{CS} (in), 14 +VCC (power), 15 GND (power), 16 NC, 17 GND (power), 18 VOUT SELECT (in), 19 VOUT SENSE (in), 20 VOUT (out)

## AD558JPZ-REEL7
designator U?
Single 8-Bit Low Cost Complete uP-Compatible DACPORT, 0 to +70 degC, P-20A, Pb-Free, Reel; Generic Part Number: AD558; Manufacturer: Analog Devices; PartNumber: AD558JPZ-REEL7; # DAC Outputs: 1; Max V+: 16.5V; Op Pwr Diss: 375mW; Resolution (Bits): 8; Settling Time: 800ns; Single Supply: Yes; DatasheetVersion: Rev.A; PackageVersion: Nov-2002; PackageReference: P-20A; PackageDescription: 20-Lead Plastic Leaded Chip Carrier [PLCC]; Supplier 1: Digi-Key; Supplier Part Number 1: AD558JPZ-REEL7-ND; Supplier 2: Newark; Supplier Part Number 2: 59K4250; Supplier 3: Mouser; Supplier Part Number 3: 584-AD558JPZ-R7; Packing: Reel; RoHS: Y; Mounting Technology: Surface Mount; Code_JEDEC: MO-047-AA; ComponentLink1Description: Manufacturer URL; ComponentLink1URL: http://www.analog.com/en/index.html; ComponentLink2Description: Datasheet; ComponentLink2URL: http://www.analog.com/static/imported-files/data_sheets/AD558.pdf; ComponentLink3Description: Package Specification; ComponentLink3URL: http://www.analog.com/static/imported-files/packages/3121431516544404277643669223804694P20A.pdf; ComponentLink4Description: Product URL; ComponentLink4URL: http://www.analog.com/en/digital-to-analog-converters/da-converters/ad558/products/product.html
footprint P-20A_N (Leaded Chip Carrier, 20-Leads, Body 9x9mm, Pitch 1.27mm, IPC Medium Density)
footprint P-20A_L (Leaded Chip Carrier, 20-Leads, Body 9x9mm, Pitch 1.27mm, IPC High Density)
footprint P-20A_M (Leaded Chip Carrier, 20-Leads, Body 9x9mm, Pitch 1.27mm, IPC Low Density)
pins: 1 NC, 2 DB0 (LSB) (in), 3 DB1 (in), 4 DB2 (in), 5 DB3 (in), 6 NC, 7 DB4 (in), 8 DB5 (in), 9 DB6 (in), 10 (MSB) DB7 (in), 11 NC, 12 ~{CE} (in), 13 ~{CS} (in), 14 +VCC (power), 15 GND (power), 16 NC, 17 GND (power), 18 VOUT SELECT (in), 19 VOUT SENSE (in), 20 VOUT (out)

## AD558KD
designator U?
Single 8-Bit Low Cost Complete uP-Compatible DACPORT, 0 to +70 degC, D-16, Tube; Generic Part Number: AD558; Manufacturer: Analog Devices; PartNumber: AD558KD; # DAC Outputs: 1; Max V+: 16.5V; Op Pwr Diss: 375mW; Resolution (Bits): 8; Settling Time: 800ns; Single Supply: Yes; DatasheetVersion: Rev.A; PackageVersion: Oct-2004; PackageReference: D-16; PackageDescription: 16-Lead Side-Brazed Ceramic Dual In-Line Package [SBDIP]; Supplier 1: Digi-Key; Supplier Part Number 1: AD558KD-ND; Supplier 2: Newark; Supplier Part Number 2: 05F6979; Supplier 3: Mouser; Supplier Part Number 3: 584-AD558KD; Packing: Tube; RoHS: N; Mounting Technology: Through Hole; ComponentLink1Description: Manufacturer URL; ComponentLink1URL: http://www.analog.com/en/index.html; ComponentLink2Description: Datasheet; ComponentLink2URL: http://www.analog.com/static/imported-files/data_sheets/AD558.pdf; ComponentLink3Description: Package Specification; ComponentLink3URL: http://www.analog.com/static/imported-files/packages/411773807540737148809448D_16.pdf; ComponentLink4Description: Product URL; ComponentLink4URL: http://www.analog.com/en/digital-to-analog-converters/da-converters/ad558/products/product.html
footprint D-16 (DIP, 16-Leads, Row Spacing 7.62mm, Pitch 2.54mm, Body 21.3x6.7mm)
pins: 1 (LSB)  DB0 (in), 2 DB1 (in), 3 DB2 (in), 4 DB3 (in), 5 DB4 (in), 6 DB5 (in), 7 DB6 (in), 8 (MSB) DB7 (in), 9 ~{CE} (in), 10 ~{CS} (in), 11 +VCC (power), 12 GND (power), 13 GND (power), 14 VOUTSELECT (in), 15 VOUTSENSE (in), 16 VOUT (out)

## AD558KN
designator U?
Single 8-Bit Low Cost Complete uP-Compatible DACPORT, 0 to +70 degC, N-16, Tube; Generic Part Number: AD558; Manufacturer: Analog Devices; PartNumber: AD558KN; # DAC Outputs: 1; Max V+: 16.5V; Op Pwr Diss: 375mW; Resolution (Bits): 8; Settling Time: 800ns; Single Supply: Yes; DatasheetVersion: Rev.A; PackageVersion: 070706-A; PackageReference: N-16; PackageDescription: 16-Lead Plastic Dual In-Line Package [PDIP] Narrow Body; Supplier 1: Digi-Key; Supplier Part Number 1: AD558KN-ND; Supplier 2: Mouser; Supplier Part Number 2: 584-AD558KN; Packing: Tube; RoHS: N; Mounting Technology: Through Hole; Code_JEDEC: MS-001; ComponentLink1Description: Manufacturer URL; ComponentLink1URL: http://www.analog.com/en/index.html; ComponentLink2Description: Datasheet; ComponentLink2URL: http://www.analog.com/static/imported-files/data_sheets/AD558.pdf; ComponentLink3Description: Package Specification; ComponentLink3URL: http://www.analog.com/static/imported-files/packages/44768431550332N_16.pdf; ComponentLink4Description: Product URL; ComponentLink4URL: http://www.analog.com/en/digital-to-analog-converters/da-converters/ad558/products/product.html
footprint N-16 (DIP, 16-Leads, Row Spacing 7.62mm, Pitch 2.54mm, Body 20.1x6.6mm)
pins: 1 (LSB) DB0 (in), 2 DB1 (in), 3 DB2 (in), 4 DB3 (in), 5 DB4 (in), 6 DB5 (in), 7 DB6 (in), 8 (MSB) DB7 (in), 9 ~{CE} (in), 10 ~{CS} (in), 11 +VCC (power), 12 GND (power), 13 GND (power), 14 VOUT SELECT (in), 15 VOUT SENSE (in), 16 VOUT (out)

## AD558KNZ
designator U?
Single 8-Bit Low Cost Complete uP-Compatible DACPORT, 0 to +70 degC, N-16, Pb-Free, Tube; Generic Part Number: AD558; Manufacturer: Analog Devices; PartNumber: AD558KNZ; # DAC Outputs: 1; Max V+: 16.5V; Op Pwr Diss: 375mW; Resolution (Bits): 8; Settling Time: 800ns; Single Supply: Yes; DatasheetVersion: Rev.A; PackageVersion: 070706-A; PackageReference: N-16; PackageDescription: 16-Lead Plastic Dual In-Line Package [PDIP] Narrow Body; Supplier 1: Digi-Key; Supplier Part Number 1: AD558KNZ-ND; Supplier 2: Farnell; Supplier Part Number 2: 1438378; Supplier 3: Newark; Supplier Part Number 3: 59K4251; Supplier 4: Mouser; Supplier Part Number 4: 584-AD558KNZ; Packing: Tube; RoHS: Y; Mounting Technology: Through Hole; Code_JEDEC: MS-001; ComponentLink1Description: Manufacturer URL; ComponentLink1URL: http://www.analog.com/en/index.html; ComponentLink2Description: Datasheet; ComponentLink2URL: http://www.analog.com/static/imported-files/data_sheets/AD558.pdf; ComponentLink3Description: Package Specification; ComponentLink3URL: http://www.analog.com/static/imported-files/packages/44768431550332N_16.pdf; ComponentLink4Description: Product URL; ComponentLink4URL: http://www.analog.com/en/digital-to-analog-converters/da-converters/ad558/products/product.html
footprint N-16 (DIP, 16-Leads, Row Spacing 7.62mm, Pitch 2.54mm, Body 20.1x6.6mm)
pins: 1 (LSB) DB0 (in), 2 DB1 (in), 3 DB2 (in), 4 DB3 (in), 5 DB4 (in), 6 DB5 (in), 7 DB6 (in), 8 (MSB) DB7 (in), 9 ~{CE} (in), 10 ~{CS} (in), 11 +VCC (power), 12 GND (power), 13 GND (power), 14 VOUT SELECT (in), 15 VOUT SENSE (in), 16 VOUT (out)

## AD558KP
designator U?
Single 8-Bit Low Cost Complete uP-Compatible DACPORT, 0 to +70 degC, P-20A, Tube; Generic Part Number: AD558; Manufacturer: Analog Devices; PartNumber: AD558KP; # DAC Outputs: 1; Max V+: 16.5V; Op Pwr Diss: 375mW; Resolution (Bits): 8; Settling Time: 800ns; Single Supply: Yes; DatasheetVersion: Rev.A; PackageVersion: Nov-2002; PackageReference: P-20A; PackageDescription: 20-Lead Plastic Leaded Chip Carrier [PLCC]; Supplier 1: Digi-Key; Supplier Part Number 1: AD558KP-ND; Supplier 2: Mouser; Supplier Part Number 2: 584-AD558KP; Packing: Tube; RoHS: N; Mounting Technology: Surface Mount; Code_JEDEC: MO-047-AA; ComponentLink1Description: Manufacturer URL; ComponentLink1URL: http://www.analog.com/en/index.html; ComponentLink2Description: Datasheet; ComponentLink2URL: http://www.analog.com/static/imported-files/data_sheets/AD558.pdf; ComponentLink3Description: Package Specification; ComponentLink3URL: http://www.analog.com/static/imported-files/packages/3121431516544404277643669223804694P20A.pdf; ComponentLink4Description: Product URL; ComponentLink4URL: http://www.analog.com/en/digital-to-analog-converters/da-converters/ad558/products/product.html
footprint P-20A_N (Leaded Chip Carrier, 20-Leads, Body 9x9mm, Pitch 1.27mm, IPC Medium Density)
footprint P-20A_L (Leaded Chip Carrier, 20-Leads, Body 9x9mm, Pitch 1.27mm, IPC High Density)
footprint P-20A_M (Leaded Chip Carrier, 20-Leads, Body 9x9mm, Pitch 1.27mm, IPC Low Density)
pins: 1 NC, 2 DB0 (LSB) (in), 3 DB1 (in), 4 DB2 (in), 5 DB3 (in), 6 NC, 7 DB4 (in), 8 DB5 (in), 9 DB6 (in), 10 (MSB) DB7 (in), 11 NC, 12 ~{CE} (in), 13 ~{CS} (in), 14 +VCC (power), 15 GND (power), 16 NC, 17 GND (power), 18 VOUT SELECT (in), 19 VOUT SENSE (in), 20 VOUT (out)

## AD558KP-REEL7
designator U?
Single 8-Bit Low Cost Complete uP-Compatible DACPORT, 0 to +70 degC, P-20A, Reel; Generic Part Number: AD558; Manufacturer: Analog Devices; PartNumber: AD558KP-REEL7; # DAC Outputs: 1; Max V+: 16.5V; Op Pwr Diss: 375mW; Resolution (Bits): 8; Settling Time: 800ns; Single Supply: Yes; DatasheetVersion: Rev.A; PackageVersion: Nov-2002; PackageReference: P-20A; PackageDescription: 20-Lead Plastic Leaded Chip Carrier [PLCC]; Supplier 1: Digi-Key; Supplier Part Number 1: AD558KP-REEL7-ND; Supplier 2: Mouser; Supplier Part Number 2: 584-AD558KP-R7; Packing: Reel; RoHS: N; Mounting Technology: Surface Mount; Code_JEDEC: MO-047-AA; ComponentLink1Description: Manufacturer URL; ComponentLink1URL: http://www.analog.com/en/index.html; ComponentLink2Description: Datasheet; ComponentLink2URL: http://www.analog.com/static/imported-files/data_sheets/AD558.pdf; ComponentLink3Description: Package Specification; ComponentLink3URL: http://www.analog.com/static/imported-files/packages/3121431516544404277643669223804694P20A.pdf; ComponentLink4Description: Product URL; ComponentLink4URL: http://www.analog.com/en/digital-to-analog-converters/da-converters/ad558/products/product.html
footprint P-20A_N (Leaded Chip Carrier, 20-Leads, Body 9x9mm, Pitch 1.27mm, IPC Medium Density)
footprint P-20A_L (Leaded Chip Carrier, 20-Leads, Body 9x9mm, Pitch 1.27mm, IPC High Density)
footprint P-20A_M (Leaded Chip Carrier, 20-Leads, Body 9x9mm, Pitch 1.27mm, IPC Low Density)
pins: 1 NC, 2 DB0 (LSB) (in), 3 DB1 (in), 4 DB2 (in), 5 DB3 (in), 6 NC, 7 DB4 (in), 8 DB5 (in), 9 DB6 (in), 10 (MSB) DB7 (in), 11 NC, 12 ~{CE} (in), 13 ~{CS} (in), 14 +VCC (power), 15 GND (power), 16 NC, 17 GND (power), 18 VOUT SELECT (in), 19 VOUT SENSE (in), 20 VOUT (out)

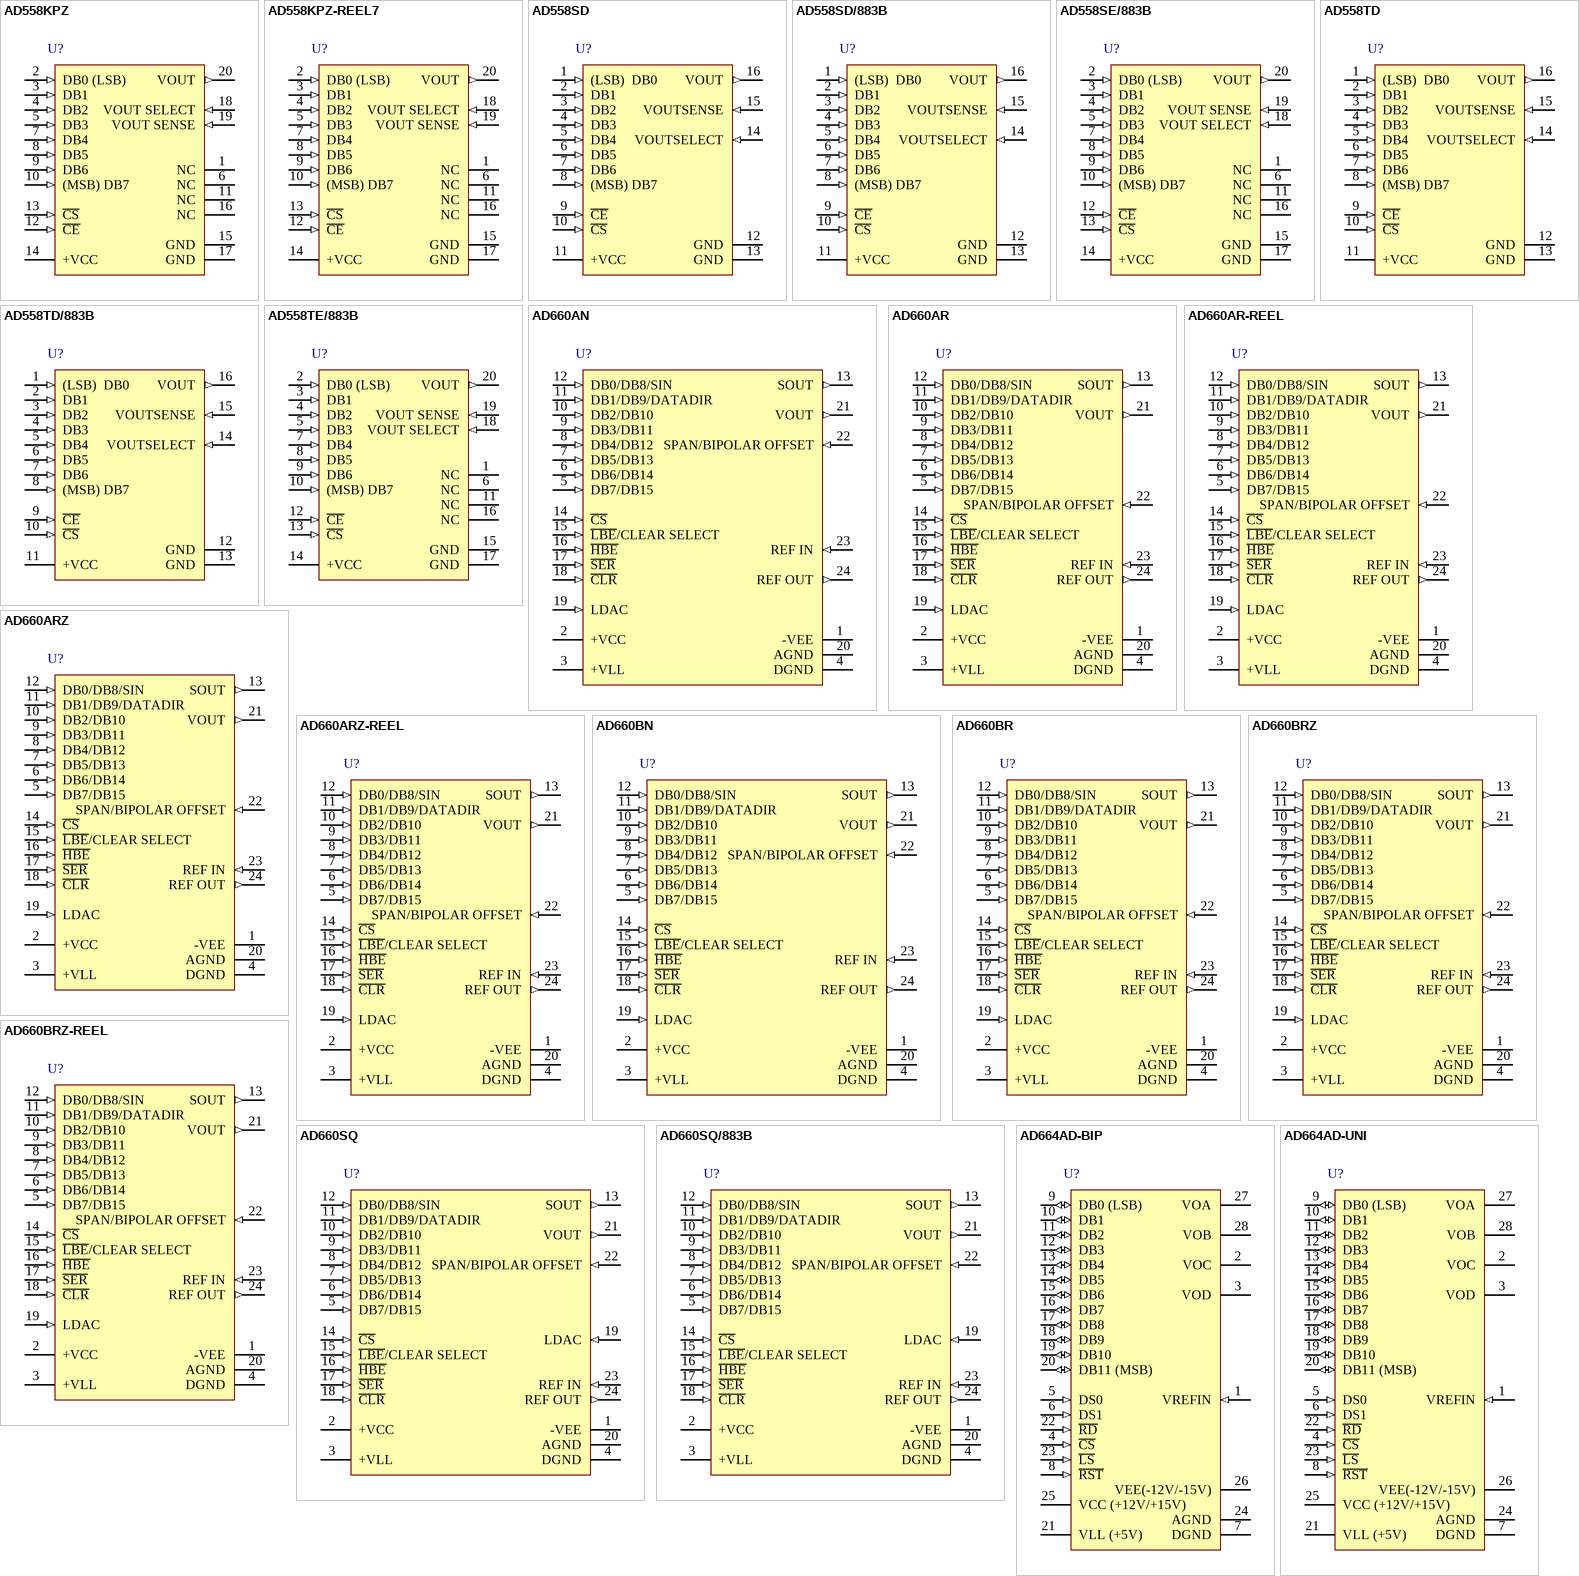
[diagram p3: symbols AD558KPZ to AD664AD-UNI]

## AD558KPZ
designator U?
Single 8-Bit Low Cost Complete uP-Compatible DACPORT, 0 to +70 degC, P-20A, Pb-Free, Tube; Generic Part Number: AD558; Manufacturer: Analog Devices; PartNumber: AD558KPZ; # DAC Outputs: 1; Max V+: 16.5V; Op Pwr Diss: 375mW; Resolution (Bits): 8; Settling Time: 800ns; Single Supply: Yes; DatasheetVersion: Rev.A; PackageVersion: Nov-2002; PackageReference: P-20A; PackageDescription: 20-Lead Plastic Leaded Chip Carrier [PLCC]; Supplier 1: Digi-Key; Supplier Part Number 1: AD558KPZ-ND; Supplier 2: Newark; Supplier Part Number 2: 59K4253; Supplier 3: Mouser; Supplier Part Number 3: 584-AD558KPZ; Packing: Tube; RoHS: Y; Mounting Technology: Surface Mount; Code_JEDEC: MO-047-AA; ComponentLink1Description: Manufacturer URL; ComponentLink1URL: http://www.analog.com/en/index.html; ComponentLink2Description: Datasheet; ComponentLink2URL: http://www.analog.com/static/imported-files/data_sheets/AD558.pdf; ComponentLink3Description: Package Specification; ComponentLink3URL: http://www.analog.com/static/imported-files/packages/3121431516544404277643669223804694P20A.pdf; ComponentLink4Description: Product URL; ComponentLink4URL: http://www.analog.com/en/digital-to-analog-converters/da-converters/ad558/products/product.html
footprint P-20A_N (Leaded Chip Carrier, 20-Leads, Body 9x9mm, Pitch 1.27mm, IPC Medium Density)
footprint P-20A_L (Leaded Chip Carrier, 20-Leads, Body 9x9mm, Pitch 1.27mm, IPC High Density)
footprint P-20A_M (Leaded Chip Carrier, 20-Leads, Body 9x9mm, Pitch 1.27mm, IPC Low Density)
pins: 1 NC, 2 DB0 (LSB) (in), 3 DB1 (in), 4 DB2 (in), 5 DB3 (in), 6 NC, 7 DB4 (in), 8 DB5 (in), 9 DB6 (in), 10 (MSB) DB7 (in), 11 NC, 12 ~{CE} (in), 13 ~{CS} (in), 14 +VCC (power), 15 GND (power), 16 NC, 17 GND (power), 18 VOUT SELECT (in), 19 VOUT SENSE (in), 20 VOUT (out)

## AD558KPZ-REEL7
designator U?
Single 8-Bit Low Cost Complete uP-Compatible DACPORT, 0 to +70 degC, P-20A, Pb-Free, Reel; Generic Part Number: AD558; Manufacturer: Analog Devices; PartNumber: AD558KPZ-REEL7; # DAC Outputs: 1; Max V+: 16.5V; Op Pwr Diss: 375mW; Resolution (Bits): 8; Settling Time: 800ns; Single Supply: Yes; DatasheetVersion: Rev.A; PackageVersion: Nov-2002; PackageReference: P-20A; PackageDescription: 20-Lead Plastic Leaded Chip Carrier [PLCC]; Supplier 1: Digi-Key; Supplier Part Number 1: AD558KPZ-REEL7-ND; Supplier 2: Mouser; Supplier Part Number 2: 584-AD558KPZ-R7; Packing: Reel; RoHS: Y; Mounting Technology: Surface Mount; Code_JEDEC: MO-047-AA; ComponentLink1Description: Manufacturer URL; ComponentLink1URL: http://www.analog.com/en/index.html; ComponentLink2Description: Datasheet; ComponentLink2URL: http://www.analog.com/static/imported-files/data_sheets/AD558.pdf; ComponentLink3Description: Package Specification; ComponentLink3URL: http://www.analog.com/static/imported-files/packages/3121431516544404277643669223804694P20A.pdf; ComponentLink4Description: Product URL; ComponentLink4URL: http://www.analog.com/en/digital-to-analog-converters/da-converters/ad558/products/product.html
footprint P-20A_N (Leaded Chip Carrier, 20-Leads, Body 9x9mm, Pitch 1.27mm, IPC Medium Density)
footprint P-20A_L (Leaded Chip Carrier, 20-Leads, Body 9x9mm, Pitch 1.27mm, IPC High Density)
footprint P-20A_M (Leaded Chip Carrier, 20-Leads, Body 9x9mm, Pitch 1.27mm, IPC Low Density)
pins: 1 NC, 2 DB0 (LSB) (in), 3 DB1 (in), 4 DB2 (in), 5 DB3 (in), 6 NC, 7 DB4 (in), 8 DB5 (in), 9 DB6 (in), 10 (MSB) DB7 (in), 11 NC, 12 ~{CE} (in), 13 ~{CS} (in), 14 +VCC (power), 15 GND (power), 16 NC, 17 GND (power), 18 VOUT SELECT (in), 19 VOUT SENSE (in), 20 VOUT (out)

## AD558SD
designator U?
Single 8-Bit Low Cost Complete uP-Compatible DACPORT, -55 to +125 degC, D-16, Tube; Generic Part Number: AD558; Manufacturer: Analog Devices; PartNumber: AD558SD; # DAC Outputs: 1; Max V+: 16.5V; Op Pwr Diss: 375mW; Resolution (Bits): 8; Settling Time: 800ns; Single Supply: Yes; DatasheetVersion: Rev.A; PackageVersion: Oct-2004; PackageReference: D-16; PackageDescription: 16-Lead Side-Brazed Ceramic Dual In-Line Package [SBDIP]; Supplier 1: Digi-Key; Supplier Part Number 1: AD558SD-ND; Supplier 2: Mouser; Supplier Part Number 2: 584-AD558SD; Packing: Tube; RoHS: N; Mounting Technology: Through Hole; ComponentLink1Description: Manufacturer URL; ComponentLink1URL: http://www.analog.com/en/index.html; ComponentLink2Description: Datasheet; ComponentLink2URL: http://www.analog.com/static/imported-files/data_sheets/AD558.pdf; ComponentLink3Description: Package Specification; ComponentLink3URL: http://www.analog.com/static/imported-files/packages/411773807540737148809448D_16.pdf; ComponentLink4Description: Product URL; ComponentLink4URL: http://www.analog.com/en/digital-to-analog-converters/da-converters/ad558/products/product.html
footprint D-16 (DIP, 16-Leads, Row Spacing 7.62mm, Pitch 2.54mm, Body 21.3x6.7mm)
pins: 1 (LSB)  DB0 (in), 2 DB1 (in), 3 DB2 (in), 4 DB3 (in), 5 DB4 (in), 6 DB5 (in), 7 DB6 (in), 8 (MSB) DB7 (in), 9 ~{CE} (in), 10 ~{CS} (in), 11 +VCC (power), 12 GND (power), 13 GND (power), 14 VOUTSELECT (in), 15 VOUTSENSE (in), 16 VOUT (out)

## AD558SD/883B
designator U?
Single 8-Bit Low Cost Complete uP-Compatible DACPORT, -55 to +125 degC, D-16, Tube; Generic Part Number: AD558; Manufacturer: Analog Devices; PartNumber: AD558SD/883B; # DAC Outputs: 1; Max V+: 16.5V; Op Pwr Diss: 375mW; Resolution (Bits): 8; Settling Time: 800ns; Single Supply: Yes; DatasheetVersion: Rev.A; PackageVersion: Oct-2004; PackageReference: D-16; PackageDescription: 16-Lead Side-Brazed Ceramic Dual In-Line Package [SBDIP]; Supplier 1: Mouser; Supplier Part Number 1: 584-AD558SD883B; Packing: Tube; RoHS: N; Mounting Technology: Through Hole; ComponentLink1Description: Manufacturer URL; ComponentLink1URL: http://www.analog.com/en/index.html; ComponentLink2Description: Datasheet; ComponentLink2URL: http://www.analog.com/static/imported-files/data_sheets/AD558.pdf; ComponentLink3Description: Package Specification; ComponentLink3URL: http://www.analog.com/static/imported-files/packages/411773807540737148809448D_16.pdf; ComponentLink4Description: Product URL; ComponentLink4URL: http://www.analog.com/en/digital-to-analog-converters/da-converters/ad558/products/product.html
footprint D-16 (DIP, 16-Leads, Row Spacing 7.62mm, Pitch 2.54mm, Body 21.3x6.7mm)
pins: 1 (LSB)  DB0 (in), 2 DB1 (in), 3 DB2 (in), 4 DB3 (in), 5 DB4 (in), 6 DB5 (in), 7 DB6 (in), 8 (MSB) DB7 (in), 9 ~{CE} (in), 10 ~{CS} (in), 11 +VCC (power), 12 GND (power), 13 GND (power), 14 VOUTSELECT (in), 15 VOUTSENSE (in), 16 VOUT (out)

## AD558SE/883B
designator U?
Single 8-Bit Low Cost Complete uP-Compatible DACPORT, -55 to +125 degC, E-20-1, Tube; Generic Part Number: AD558; Manufacturer: Analog Devices; PartNumber: AD558SE/883B; # DAC Outputs: 1; Max V+: 16.5V; Op Pwr Diss: 375mW; Resolution (Bits): 8; Settling Time: 800ns; Single Supply: Yes; DatasheetVersion: Rev.A; PackageVersion: 022106-A; PackageReference: E-20-1; PackageDescription: 20-Terminal Ceramic Leadless Chip Carrier [LCC]; Supplier 1: Mouser; Supplier Part Number 1: 584-AD558SE883B; Packing: Tube; RoHS: N; Mounting Technology: Surface Mount; ComponentLink1Description: Manufacturer URL; ComponentLink1URL: http://www.analog.com/en/index.html; ComponentLink2Description: Datasheet; ComponentLink2URL: http://www.analog.com/static/imported-files/data_sheets/AD558.pdf; ComponentLink3Description: Package Specification; ComponentLink3URL: http://www.analog.com/static/imported-files/packages/PKG_PDF/LCC(E)/E_20_1.pdf; ComponentLink4Description: Product URL; ComponentLink4URL: http://www.analog.com/en/digital-to-analog-converters/da-converters/ad558/products/product.html
footprint E-20-1_N (Leadless Chip Carrier, 20-Leads, Body 8.9x8.9mm, Pitch 1.27mm, IPC Medium Density)
footprint E-20-1_L (Leadless Chip Carrier, 20-Leads, Body 8.9x8.9mm, Pitch 1.27mm, IPC High Density)
footprint E-20-1_M (Leadless Chip Carrier, 20-Leads, Body 8.9x8.9mm, Pitch 1.27mm, IPC Low Density)
pins: 1 NC, 2 DB0 (LSB) (in), 3 DB1 (in), 4 DB2 (in), 5 DB3 (in), 6 NC, 7 DB4 (in), 8 DB5 (in), 9 DB6 (in), 10 (MSB) DB7 (in), 11 NC, 12 ~{CE} (in), 13 ~{CS} (in), 14 +VCC (power), 15 GND (power), 16 NC, 17 GND (power), 18 VOUT SELECT (in), 19 VOUT SENSE (in), 20 VOUT (out)